# EAGLE library part BQ24630 (library dawidkulpa_dev)
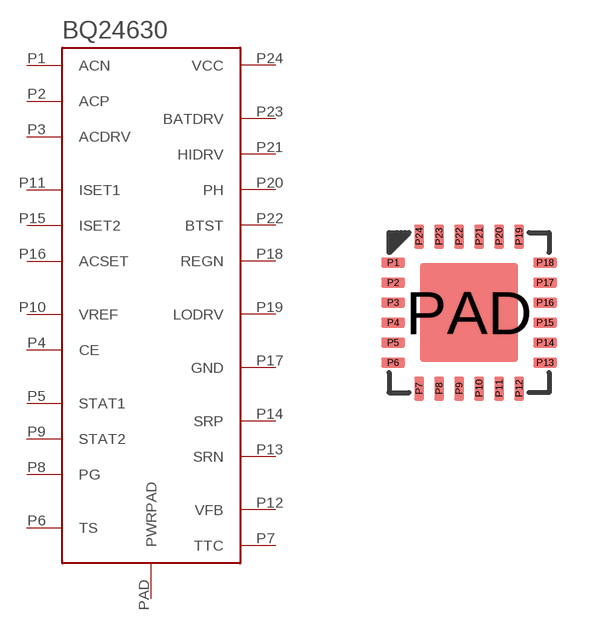
[diagram p22: symbol with the pads of VQFN24; footprint VQFN24]

Designator prefix -

## BQ24630  [VQFN24]
P1  ACN
P2  ACP
P3  ACDRV
P4  CE
P5  STAT1
P6  TS
P7  TTC
P8  PG
P9  STAT2
P10  VREF
P11  ISET1
P12  VFB
P13  SRN
P14  SRP
P15  ISET2
P16  ACSET
P17  GND
P18  REGN
P19  LODRV
P20  PH
P21  HIDRV
P22  BTST
P23  BATDRV
P24  VCC
PAD  PWRPAD

## Footprint VQFN24 (pad centres in mm)
smd 0.6 x 0.25: P1 -1.9,1.25; P2 -1.9,0.75; P3 -1.9,0.25; P4 -1.9,-0.25; P5 -1.9,-0.75; P6 -1.9,-1.25; P13 1.9,-1.25; P14 1.9,-0.75; P15 1.9,-0.25; P16 1.9,0.25; P17 1.9,0.75; P18 1.9,1.25
smd 0.25 x 0.6: P7 -1.25,-1.9; P8 -0.75,-1.9; P9 -0.25,-1.9; P10 0.25,-1.9; P11 0.75,-1.9; P12 1.25,-1.9; P19 1.25,1.9; P20 0.75,1.9; P21 0.25,1.9; P22 -0.25,1.9; P23 -0.75,1.9; P24 -1.25,1.9
smd 2.45 x 2.45: PAD 0,0